# EAGLE library part DS1307Z+ (library DS1307Z_)
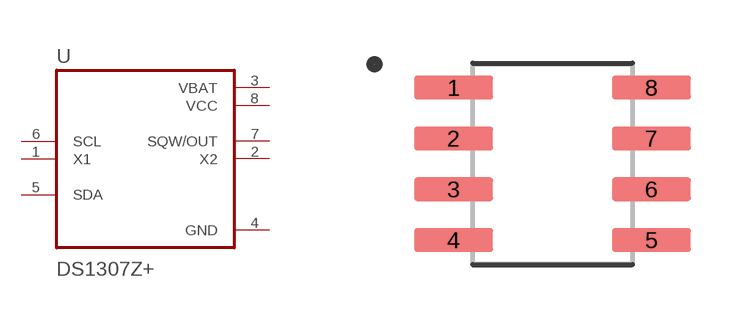
[diagram p0: symbol with the pads of SOIC127P600X175-8N; footprint SOIC127P600X175-8N]

Designator prefix U

## DS1307Z+ (Availability: Unavailable; Description: Real Time Clock _RTC_ IC Clock/Calendar 56B I²C, 2-Wire Serial 8-SOIC _0.154, 3.90mm Width_; MF: Maxim Integrated; MP: DS1307Z; Package: SO-8 Maxim Integrated; Price: None)  [SOIC127P600X175-8N]
1  X1  in
2  X2  out
3  VBAT  pwr
4  GND  pwr
5  SDA
6  SCL  in
7  SQW/OUT  out
8  VCC  pwr

## Footprint SOIC127P600X175-8N (pad centres in mm)
smd 1.97 x 0.59: 1 -2.475,1.905; 2 -2.475,0.635; 3 -2.475,-0.635; 4 -2.475,-1.905; 5 2.475,-1.905; 6 2.475,-0.635; 7 2.475,0.635; 8 2.475,1.905